# Altium schematic symbol library Adam home.SchLib: 216 symbols (part 1 of 2)
Pins are listed as number, name and electrical type; pins without a type are passive.

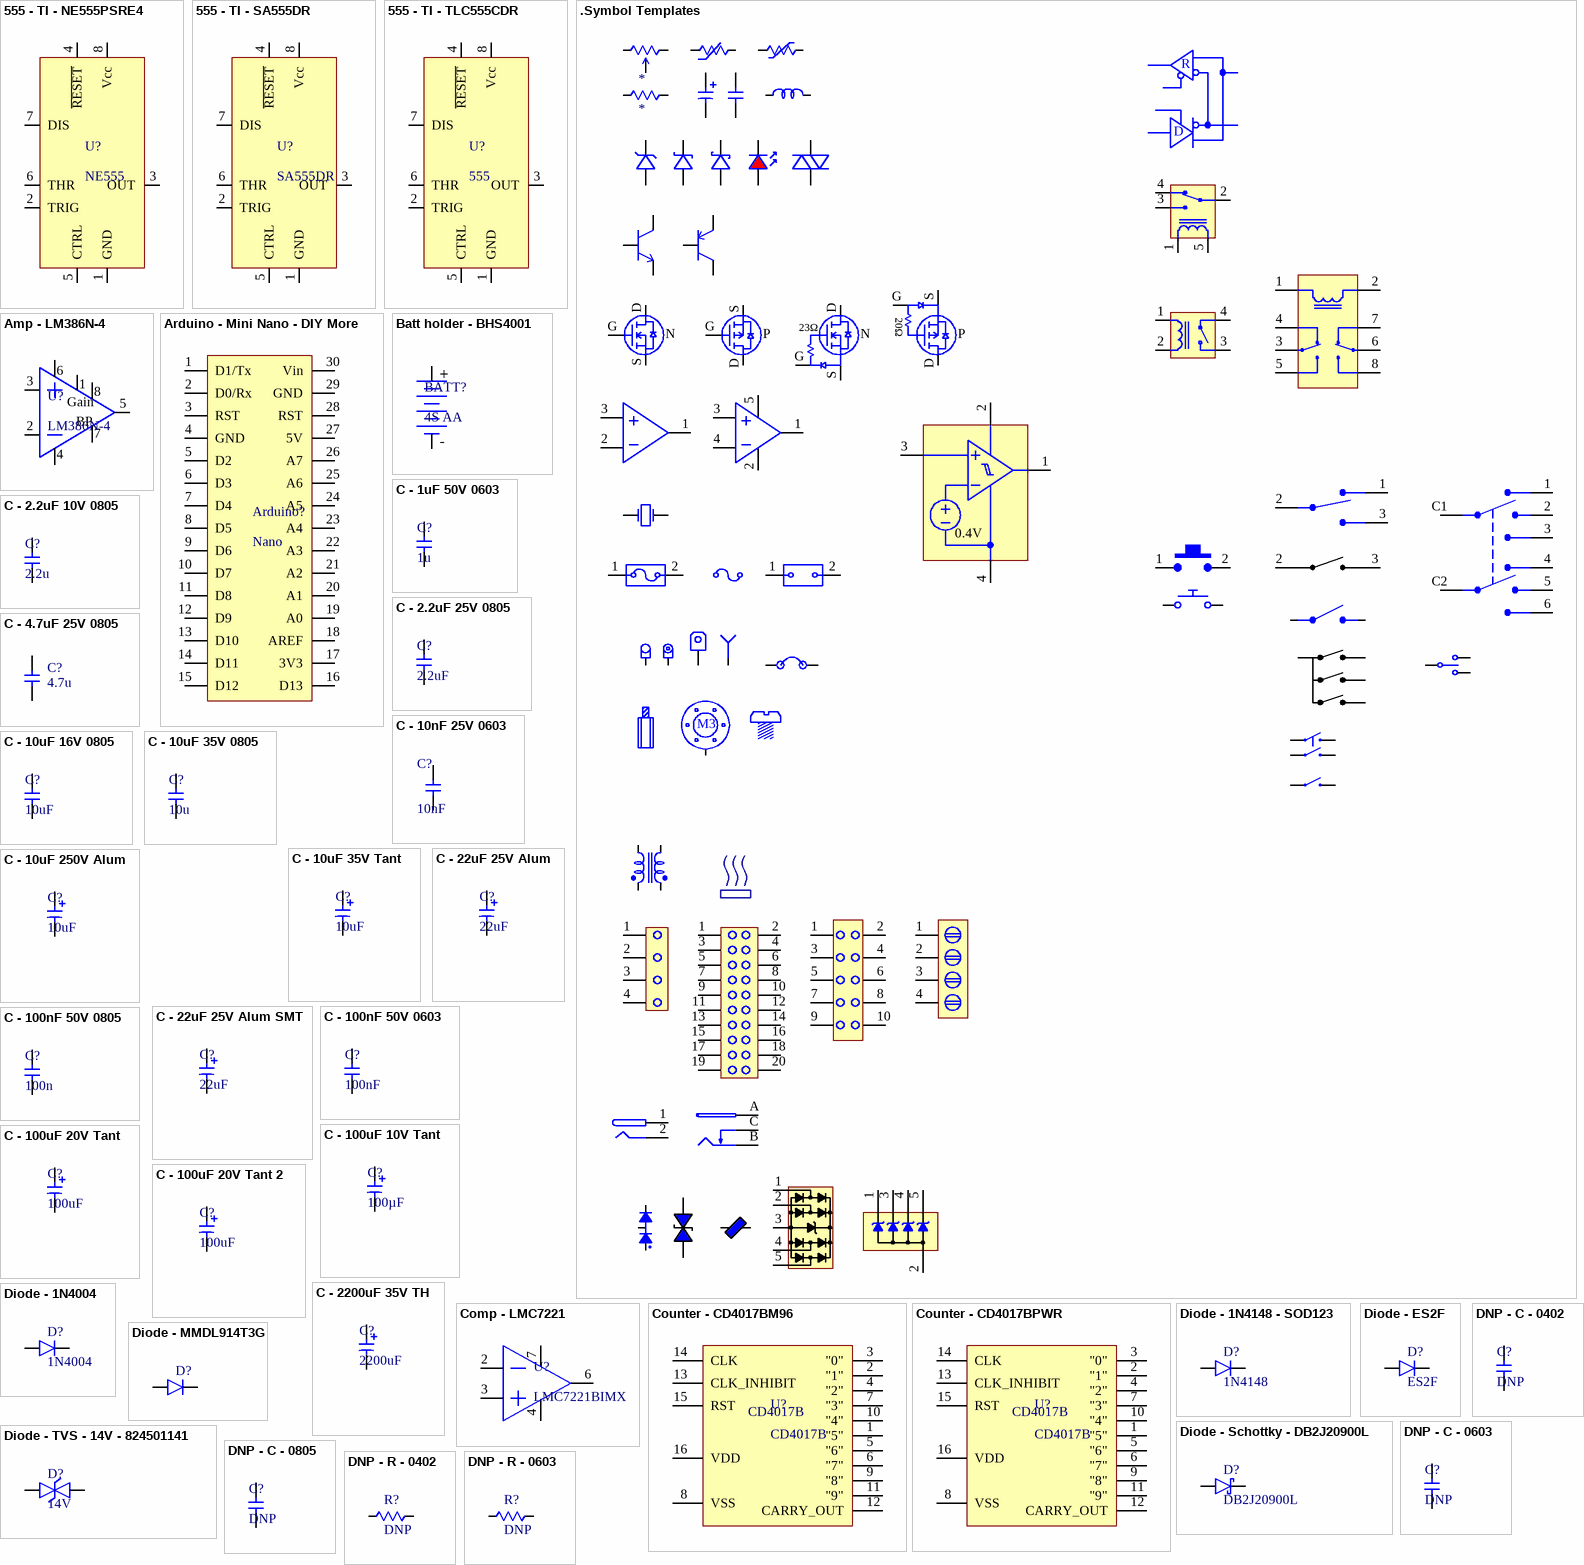
[diagram p0: symbols 555 - TI - NE555PSRE4 to DNP - R - 0603]

## 555 - TI - NE555PSRE4
designator U?, comment NE555
IC OSC SGL TIMER 100KHZ 8-SOIC; MFG: TI; MFG PN: NE555PSRE4; Supplier: DigiKey; Supplier PN: NE555PSRE4-ND; ComponentLink1Description: DigiKey; ComponentLink1URL: https://www.digikey.ca/en/products/detail/texas-instruments/NE555PSRE4/1571968; ComponentLink2Description: Datasheet; ComponentLink2URL: https://www.ti.com/lit/ds/symlink/ne555.pdf
pins: 1 GND, 2 TRIG, 3 OUT, 4 ~{RESET}, 5 CTRL, 6 THR, 7 DIS, 8 Vcc

## 555 - TI - SA555DR
designator U?, comment SA555DR
IC OSC SGL TIMER 100KHZ 8-SOIC; MFG: TI; MFG PN: SA555DR; Supplier: DigiKey; Supplier PN: 296-14635-1-ND; ComponentLink1Description: DigiKey; ComponentLink1URL: https://www.digikey.ca/en/products/detail/texas-instruments/SA555DR/555957; ComponentLink2Description: Datasheet; ComponentLink2URL: https://www.ti.com/lit/ds/symlink/sa555.pdf
pins: 1 GND, 2 TRIG, 3 OUT, 4 ~{RESET}, 5 CTRL, 6 THR, 7 DIS, 8 Vcc

## 555 - TI - TLC555CDR
designator U?, comment 555
IC OSC SGL TIMER 2.1MHZ 8-SOIC; MFG: TI; MFG PN: TLC555CDR; ComponentLink1Description: DigiKey; ComponentLink1URL: https://www.digikey.ca/en/products/detail/texas-instruments/TLC555CDR/276979; ComponentLink2Description: Datasheet; ComponentLink2URL: https://www.ti.com/lit/ds/symlink/tlc555.pdf; Supplier: DigiKey; Supplier PN: 296-1336-1-ND
footprint TI - D (R-PDSO-G8) (http://www.ti.com/lit/ml/mpds348/mpds348.pdf)
pins: 1 GND, 2 TRIG, 3 OUT, 4 ~{RESET}, 5 CTRL, 6 THR, 7 DIS, 8 Vcc

## .Symbol Templates
designator *
pins: 0, 1, 1, 1, 1, 1, 1, 1, 1, 1, 1, 1, 1, 1 "Drain", 1, 1, 1, 1, 1 OUT, 1 1OUT, 1 OUT, 1, 1, 1, 1, 1, 1, 1, 1, 1, 1 "Drain", 1, 1, 1, 1, 1, 1, 1, 1, 1, 1, 1, 1, 1, 1, 1, 1, 1, 2, 2, 2, 2, 2, 2, 2, 2, 2, 2, 2 "Source", 2, 2, 2, 2, 2 VS, 2 1IN-, 2 VEE, 2, 2, 2, 2, 2, 2, 2, 2 "Source", 2, 2, 2, 2, 2, 2, 2, 2, 2, 2, 2, 2, 2, 2, 2, 2, 2, 2, 3, 3, 3, 3, 3, 3, 3 IN+, 3 1IN+, 3 IN+, 3, 3, 3, 3, 3, 3, 3, 3, 3, 3, 3, 3, 3, 4, 4, 4, 4, 4, 4 GND, 4 IN-, 4, 4, 4, 4, 4, 4, 4, 5, 5, 5 VCC, 5, 5, 5, 5, 5, 6, 6, 6, 6, 7, 7, 7, 8, 8, 8, 9, 9, 10, 10, 11, 12, 13, 14, 15, 16, 17, 18, 19, 20, A, B, C, C1, C2, D, D, D, D, G, G, G, G, S, S, S, S
text: R; 20Ω; 23Ω; N; P; 0.4V; M3

## Amp - LM386N-4
designator U?, comment LM386N-4
IC AMP AUDIO PWR 1W MONO AB 8DIP; MFG: TI; MFG PN: LM386N-4/NOPB; Supplier: DigiKey; Supplier PN: 296-43960-5-ND; ComponentLink1Description: DigiKey; ComponentLink1URL: https://www.digikey.ca/en/products/detail/texas-instruments/LM386N-4-NOPB/148192; ComponentLink2Description: Datasheet; ComponentLink2URL: https://www.ti.com/lit/ds/symlink/lm386.pdf
pins: 1 Gain1, 2 - Input, 3 + Input, 4 GND, 5 Vout, 6 Vs, 7 Bypass, 8 Gain2
text: Gain; BP

## Arduino - Mini Nano - DIY More
designator Arduino?, comment Nano
ARDUINO NANO BOARD
pins: 1 D1/Tx, 2 D0/Rx, 3 RST, 4 GND, 5 D2, 6 D3, 7 D4, 8 D5, 9 D6, 10 D7, 11 D8, 12 D9, 13 D10, 14 D11, 15 D12, 16 D13, 17 3V3, 18 AREF, 19 A0, 20 A1, 21 A2, 22 A3, 23 A4, 24 A5, 25 A6, 26 A7, 27 5V, 28 RST, 29 GND, 30 Vin

## Batt holder - BHS4001
designator BATT?, comment 4S AA
BATT HOLDER 4 AA; MFG: TAIWAN; MFG PN: BHS4001; Supplier: Tayda; Supplier PN: A-842; ComponentLink1Description: Tayda; ComponentLink1URL: https://www.taydaelectronics.com/aa-battery-holder-4.html
pins: 1 V+, 2 V-
text: +; -

## C - 1uF 50V 0603
designator C?, comment 1u
CAP CER 1UF 50V X5R 0603; MFG: Yageo; MFG PN: CC0603KRX5R9BB105; Supplier: DigiKey; Supplier PN: 311-1787-1-ND
footprint C0603
pins: 1, 2

## C - 2.2uF 10V 0805
designator C?, comment 2.2u
CAP CER 2.2UF 10V X7R 0805; MFG: Samsung; MFG PN: CL21B225KPFNNNE; Supplier: DigiKey; Supplier PN: 1276-1188-1-ND
footprint C0805
pins: 1, 2

## C - 2.2uF 25V 0805
designator C?, comment 2.2uF
CAP CER 2.2UF 25V X5R 0805; MFG: Samsung; MFG PN: CL21A225KAFNNNG; Supplier: DigiKey; Supplier PN: 1276-6458-1-ND
footprint C0805
pins: 1, 2

## C - 4.7uF 25V 0805
designator C?, comment 4.7u
CAP CER 4.7UF 25V X5R 0805; MFG: Yageo; MFG PN: CC0805KKX5R8BB475; Supplier: DigiKey; Supplier PN: 311-1871-1-ND
footprint C0805
pins: 1, 2

## C - 10nF 25V 0603
designator C?, comment 10nF
CAP CER 10000PF 25V X7R 0603; MFG: Yageo; MFG PN: CC0603KRX7R8BB103; Supplier: DigiKey; Supplier PN: 311-1360-1-ND
footprint C0603
pins: 1, 2

## C - 10uF 16V 0805
designator C?, comment 10uF
CAP CER 10UF 16V X5R 0805; MFG: Samsung; MFG PN: CL21A106KOQNNWE; Supplier: DigiKey; Supplier PN: 1276-2894-1-ND
footprint C0805
pins: 1, 2

## C - 10uF 35V 0805
designator C?, comment 10u
CAP CER 10UF 35V X5R 0805; MFG: Murata; MFG PN: GRM21BR6YA106KE43L; Supplier: DigiKey; Supplier PN: 490-10514-1-ND
footprint C0805
pins: 1, 2

## C - 10uF 35V Tant
designator C?, comment 10uF
CAP TANT 10UF 10% 35V 2917; MFG: AVX Corp; MFG PN: TPSD106K035R0125; Supplier: DigiKey; Supplier PN: 478-3337-1-ND
footprint C - AVX - TPS - size D (478-9142-1-ND)
pins: 1, 2

## C - 10uF 250V Alum
designator C?, comment 10uF
CAP ALUM 10UF 20% 250V SMD; MFG: Panasonic; MFG PN: EEV-EB2E100Q; Supplier: DigiKey; Supplier PN: PCE3432CT-ND
footprint C - Panasonic - G17 (PCE3432CT-ND)
pins: 1, 2

## C - 22uF 25V Alum
designator C?, comment 22uF
CAP ALUM 22UF 20% 25V RADIAL; MFG: Wurth Electronics Inc.; MFG PN: 860020472004; Supplier: DigiKey; Supplier PN: 732-8821-1-ND
footprint C - Wurth - 2mm (732-8821-1-ND)
pins: 1, 2

## C - 22uF 25V Alum SMT
designator C?, comment 22uF
CAP 22 UF 20% 25 V; MFG: Wurth Electronics Inc.; MFG PN: 865080442004; Supplier: DigiKey; Supplier PN: 732-8432-1-ND
footprint C - Wurth - SMT - 5mm Dia can (732-8432-1-ND)
pins: 1, 2

## C - 100nF 50V 0603
designator C?, comment 100nF
CAP CER 0.1UF 50V X7R 0603; MFG: Yageo; MFG PN: CC0603KRX7R9BB104; Supplier: DigiKey; Supplier PN: 311-1344-1-ND
footprint C0603
pins: 1, 2

## C - 100nF 50V 0805
designator C?, comment 100n
CAP CER 0.1UF 50V Y5V 0805; MFG: Yageo; MFG PN: CC0805ZRY5V9BB104; Supplier: DigiKey; Supplier PN: 311-1361-1-ND
footprint C0805
pins: 1, 2

## C - 100uF 10V Tant
designator C?, comment 100µF
CAP TANT 100UF 10% 10V 2312; MFG: Vishay Sprague; MFG PN: 593D107X9010C2TE3; ComponentLink1Description: DigiKey; ComponentLink1URL: https://www.digikey.ca/en/products/detail/vishay-sprague/593D107X9010C2TE3/1579081; ComponentLink2Description: Datasheet; ComponentLink2URL: https://www.vishay.com/docs/40005/593d.pdf; Supplier: DigiKey; Supplier PN: 718-1971-1-ND
footprint C - VISHAY 593D 2312 (CASE CODE D)
pins: 1, 2

## C - 100uF 20V Tant
designator C?, comment 100uF
CAP TANT 100UF 10% 20V 2917; MFG: AVX Corp; MFG PN: TPSD107K020R0100; Supplier: DigiKey; Supplier PN: 478-9142-1-ND
footprint C - AVX - TPS - size D (478-9142-1-ND)
pins: 1, 2

## C - 100uF 20V Tant 2
designator C?, comment 100uF
CAP TANT 100UF 20% 20V 2917; MFG: AVX Corp; MFG PN: TPSD107M020R0085; Supplier: DigiKey; Supplier PN: 478-6066-1-ND
footprint C - AVX - TPS - size D (478-9142-1-ND)
pins: 1, 2

## C - 2200uF 35V TH
designator C?, comment 2200uF
CAP ALUM 2200UF 20% 35V RADIAL; MFG: KEMET; MFG PN: ESH228M035AM7AA; Supplier: DigiKey; Supplier PN: 399-6572-ND
footprint C - KEMET - MT (KEMET size code M7)
pins: 1, 2

## Comp - LMC7221
designator U?, comment LMC7221BIMX
IC COMPAR TNY CMOS RR IN 8-SOIC; MFG: TI; MFG PN: LMC7221BIMX/NOPB; ComponentLink1Description: DigiKey; ComponentLink1URL: https://www.digikey.ca/en/products/detail/texas-instruments/LMC7221BIMX-NOPB/367452; ComponentLink2Description: Datasheet; ComponentLink2URL: https://www.ti.com/lit/ds/symlink/lmc7221.pdf?ts=1662769991979; Supplier: DigiKey; Supplier PN: LMC7221BIMX/NOPBCT-ND
pins: 2 IN-, 3 IN+, 4 V-, 6 OUT, 7 V+

## Counter - CD4017BM96
designator U?, comment CD4017B
IC DECADE COUNTER 10-BIT 16SOIC; MFG: TI; MFG PN: CD4017BM96; ComponentLink1Description: DigiKey; ComponentLink1URL: https://www.digikey.ca/en/products/detail/texas-instruments/CD4017BM96/1690809; ComponentLink2Description: Datasheet; ComponentLink2URL: https://www.ti.com/lit/ds/symlink/cd4017b.pdf; Supplier: DigiKey; Supplier PN: 296-25940-1-ND
footprint TI - D (R-PDSO-G16)
pins: 1 "5", 2 "1", 3 "0", 4 "2", 5 "6", 6 "7", 7 "3", 8 VSS, 9 "8", 10 "4", 11 "9", 12 CARRY_OUT, 13 CLK_INHIBIT, 14 CLK, 15 RST, 16 VDD

## Counter - CD4017BPWR
designator U?, comment CD4017B
Counter IC Counter, Decade 1 Element 10 Bit Positive Edge 16-TSSOP; MFG: TI; MFG PN: CD4017BPWR; Supplier: DigiKey; Supplier PN: 296-14252-1-ND; ComponentLink1Description: DigiKey; ComponentLink1URL: https://www.digikey.ca/en/products/detail/texas-instruments/CD4017BPWR/528387; ComponentLink2Description: Datasheet; ComponentLink2URL: https://www.ti.com/lit/ds/symlink/cd4017b.pdf
pins: 1 "5", 2 "1", 3 "0", 4 "2", 5 "6", 6 "7", 7 "3", 8 VSS, 9 "8", 10 "4", 11 "9", 12 CARRY_OUT, 13 CLK_INHIBIT, 14 CLK, 15 RST, 16 VDD

## Diode - 1N4004
designator D?, comment 1N4004
DIODE GEN PURP 400V 1A DO41; MFG: Diodes Incorporated; MFG PN: 1N4004-T; Supplier: DigiKey; Supplier PN: 1N4004DICT-ND; ComponentLink1Description: DigiKey; ComponentLink1URL: https://www.digikey.ca/en/products/detail/diodes-incorporated/1N4004-T/604; ComponentLink2Description: Datasheet; ComponentLink2URL: https://www.diodes.com/assets/Datasheets/ds28002.pdf
pins: 1, 2

## Diode - 1N4148 - SOD123
designator D?, comment 1N4148
DIODE GEN PURP 75V 250MA SOD123; MFG: SMC Diode Solutions; MFG PN: 1N4148WTR; Supplier: DigiKey; Supplier PN: 1655-1360-1-ND; ComponentLink1Description: DigiKey; ComponentLink1URL: https://www.digikey.ca/en/products/detail/smc-diode-solutions/1N4148W/6022450; ComponentLink2Description: Datasheet; ComponentLink2URL: https://www.smc-diodes.com/propdf/1N4148W%20N0571%20REV.E.pdf
footprint SOD 123
pins: 1, 2

## Diode - ES2F
designator D?, comment ES2F
DIODE GEN PURP 300V 2A DO214AA; MFG: Vishay Semi; MFG PN: ES2F-E3/52T; Supplier: DigiKey; Supplier PN: ES2F-E3/52TGICT-ND; ComponentLink1Description: DigiKey; ComponentLink1URL: https://www.digikey.ca/en/products/detail/vishay-general-semiconductor-diodes-division/ES2F-E3-52T/1091445; ComponentLink2Description: Datasheet; ComponentLink2URL: https://www.vishay.com/docs/88588/es2f.pdf
footprint D - SMB - Vishay (ES2F-E3/52TGICT-ND)
pins: 1, 2

## Diode - MMDL914T3G
designator D?, comment MMDL914T3G  (value not drawn)
DIODE GEN PURP 100V 200MA SOD323; MFG: ON Semi; MFG PN: MMDL914T3G; Supplier: DigiKey; Supplier PN: MMDL914T3GOSCT-ND; ComponentLink1Description: DigiKey; ComponentLink1URL: https://www.digikey.ca/en/products/detail/onsemi/MMDL914T3G/1792339; ComponentLink2Description: Datasheet; ComponentLink2URL: https://www.onsemi.com/pdf/datasheet/mmdl914t1-d.pdf
pins: 1, 2

## Diode - Schottky - DB2J20900L
designator D?, comment DB2J20900L
Diode Schottky 20V 500mA Surface Mount SMini2-F5-B; MFG: Panasonic Electronic Components; ComponentLink1URL: https://www.digikey.ca/en/products/detail/panasonic-electronic-components/DB2J20900L/2334429; MFG PN: DB2J20900L; Supplier: DigiKey; Supplier PN: DB2J20900LCT-ND; ComponentLink1Description: DigiKey; ComponentLink2Description: Datasheet; ComponentLink2URL: https://mm.digikey.com/Volume0/opasdata/d220001/medias/docus/732/DB2J20900L_DS.pdf
footprint D - Panasonic - SMini2-F5-B (From DB2J20900L datasheet, DB2J20900LCT-ND)
pins: 1, 2

## Diode - TVS - 14V - 824501141
designator D?, comment 14V
TVS DIODE 14V 23.2V DO214AC; MFG: Wurth Electronics Inc.; MFG PN: 824501141; Supplier: DigiKey; Supplier PN: 732-9951-1-ND; ComponentLink1Description: DigiKey; ComponentLink1URL: https://www.digikey.ca/en/products/detail/w%C3%BCrth-elektronik/SMAJ14CA/5870757; ComponentLink2Description: Datasheet; ComponentLink2URL: https://www.we-online.com/components/products/datasheet/824501141.pdf
footprint D - SMA - WURTH - NON-POLAR (Footprint not found)
pins: 1, 2

## DNP - C - 0402
designator C?, comment DNP  (no BOM)
DNP C 0402
footprint C0402
pins: 1, 2

## DNP - C - 0603
designator C?, comment DNP  (no BOM)
DNP C 0603
footprint C0603
pins: 1, 2

## DNP - C - 0805
designator C?, comment DNP  (no BOM)
DNP C 0805
footprint C0805
pins: 1, 2

## DNP - R - 0402
designator R?, comment DNP
DNP R 0402
footprint R0402
pins: 1, 2

## DNP - R - 0603
designator R?, comment DNP  (no BOM)
DNP R 0603
footprint R0603
pins: 1, 2

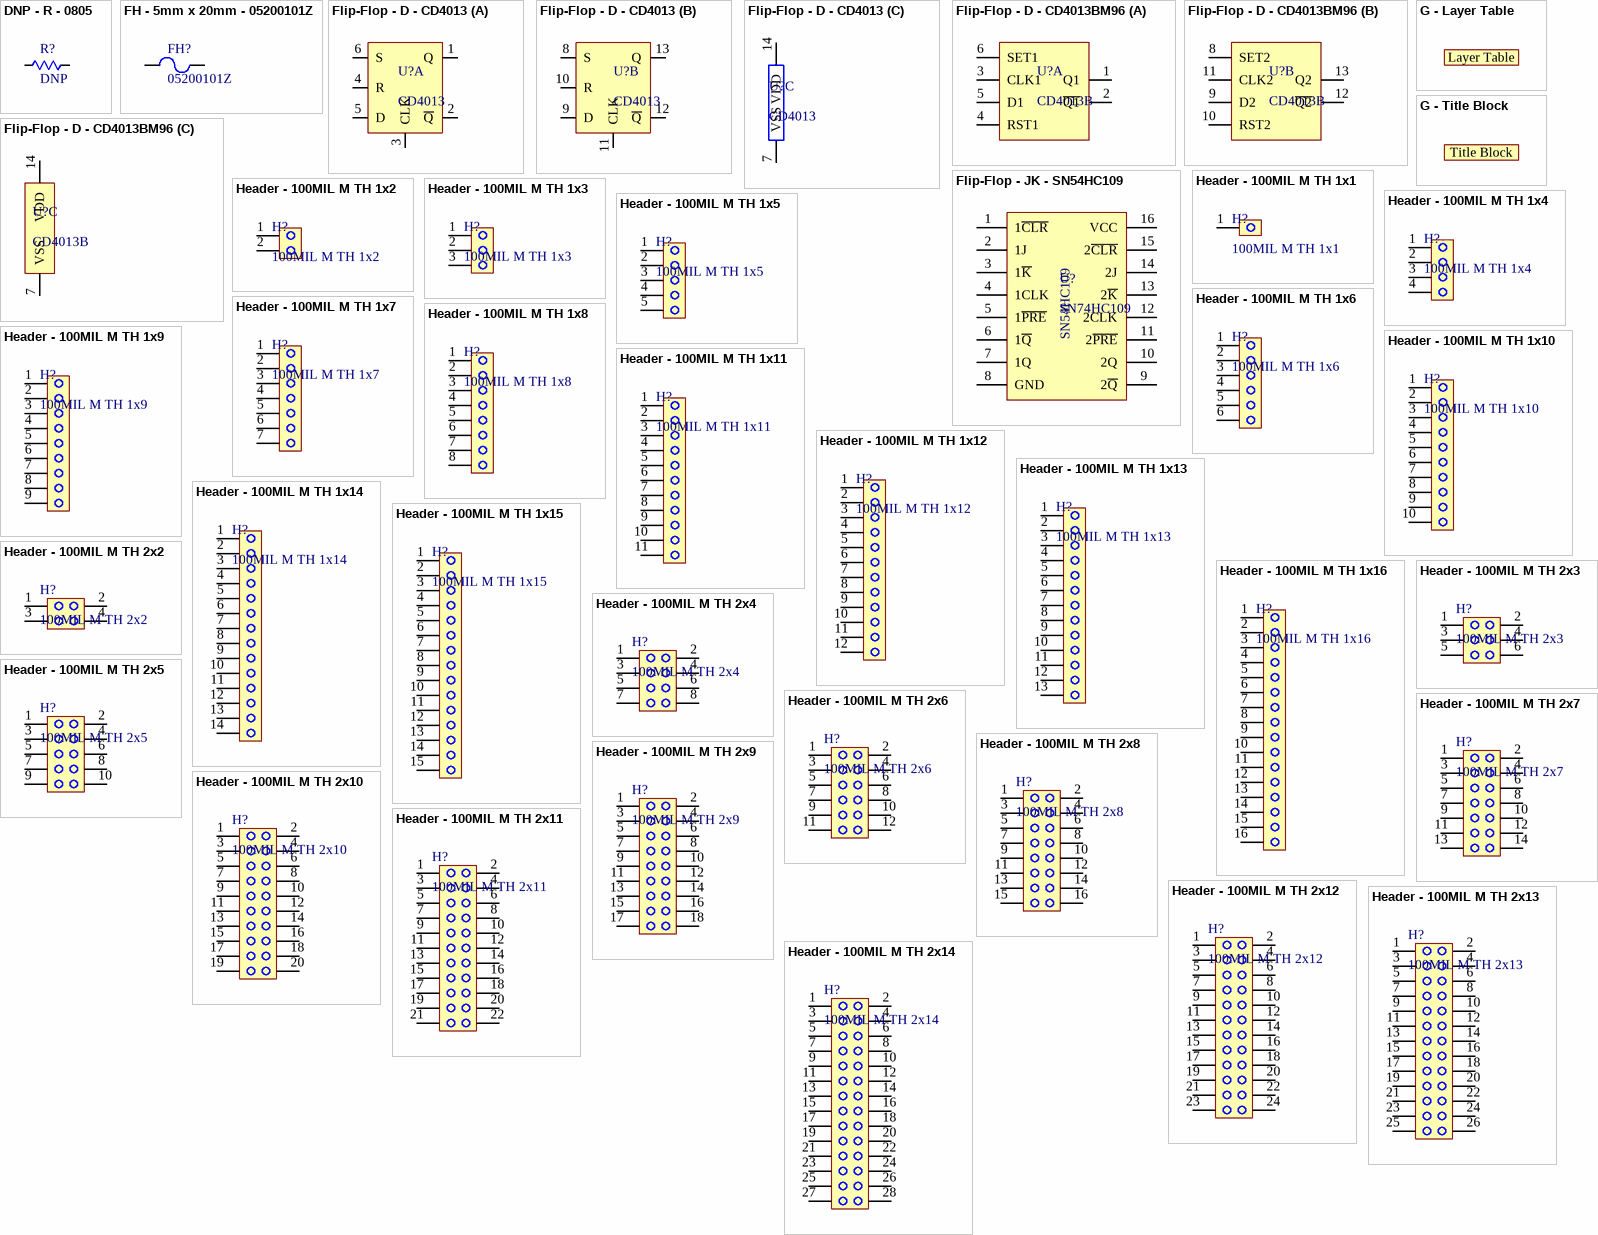
[diagram p1: symbols DNP - R - 0805 to Header - 100MIL M TH 2x14]

## DNP - R - 0805
designator R?, comment DNP  (no BOM)
DNP R 0805
footprint R0805
pins: 1, 2

## FH - 5mm x 20mm - 05200101Z
designator FH?, comment 05200101Z
FUSE BLOK CARTRIDGE 600V 10A PCB; MFG: Littelfuse Inc.; MFG PN: 05200101Z; Supplier: DigiKey; Supplier PN: F1504-ND; ComponentLink1Description: DigiKey; ComponentLink1URL: https://www.digikey.ca/en/products/detail/littelfuse-inc/05200101Z/554336; ComponentLink2Description: Datasheet; ComponentLink2URL: https://www.littelfuse.com/~/media/electronics/datasheets/fuse_blocks/littelfuse_fuse_block_520_datasheet.pdf.pdf
pins: 1, 2

## Flip-Flop - D - CD4013
designator U?, comment CD4013
IC D-TYPE POS TRG DUAL 14SOIC; MFG: TI; MFG PN: CD4013BM96G4; Supplier: DigiKey; Supplier PN: 296-31487-1-ND; ComponentLink1Description: DigiKey; ComponentLink1URL: https://www.digikey.ca/en/products/detail/texas-instruments/CD4013BM96G4/1896471; ComponentLink2Description: Datasheet; ComponentLink2URL: https://www.ti.com/lit/ds/symlink/cd4013b.pdf
footprint TI - D (R-PDSO-G14)
part A pins: 1 Q, 2 ~{Q}, 3 CLK, 4 R, 5 D, 6 S
part B pins: 8 S, 9 D, 10 R, 11 CLK, 12 ~{Q}, 13 Q
part C pins: 7 VSS, 14 VDD

## Flip-Flop - D - CD4013BM96
designator U?, comment CD4013B
IC FF D-TYPE DUAL 1BIT 14SOIC; MFG: TI; MFG PN: CD4013BM96; ComponentLink1Description: DigiKey; ComponentLink1URL: https://www.digikey.ca/en/products/detail/texas-instruments/CD4013BM96/1690718; ComponentLink2Description: Datasheet; ComponentLink2URL: https://www.ti.com/lit/ds/symlink/cd4013b.pdf; Supplier: DigiKey; Supplier PN: 296-24347-1-ND
footprint TI - D (R-PDSO-G14)
part A pins: 1 Q1, 2 ~{Q1}, 3 CLK1, 4 RST1, 5 D1, 6 SET1
part B pins: 8 SET2, 9 D2, 10 RST2, 11 CLK2, 12 ~{Q2}, 13 Q2
part C pins: 7 VSS, 14 VDD

## Flip-Flop - JK - SN54HC109
designator U?, comment SN74HC109
MFG: TI; MFG PN: SN54HC109J; Supplier: DigiKey; Supplier PN: 296-SN54HC109J-ND; ComponentLink1Description: DigiKey; ComponentLink1URL: https://www.digikey.ca/en/products/detail/texas-instruments/SN54HC109J/21521063; ComponentLink2Description: Datasheet; ComponentLink2URL: https://www.ti.com/lit/ds/symlink/sn54hc109.pdf
pins: 1 1~{CLR}, 2 1J, 3 1~{K}, 4 1CLK, 5 1~{PRE}, 6 1~{Q}, 7 1Q, 8 GND, 9 2~{Q}, 10 2Q, 11 2~{PRE}, 12 2CLK, 13 2~{K}, 14 2J, 15 2~{CLR}, 16 VCC
text: SN54HC109

## G - Layer Table
designator LT?, comment Layer Table  (value not drawn)  (no BOM)
footprint LAYER TABLE - 2
footprint LAYER TABLE - 2 - REDUCED
footprint LAYER TABLE - 4
footprint LAYER TABLE - 4 - REDUCED

## G - Title Block
designator TB?, comment Title Block  (value not drawn)  (no BOM)
PCB Title Block
footprint TITLE BLOCK

## Header - 100MIL M TH 1x1
designator H?, comment 100MIL M TH 1x1
CONN HEADER VERT 1x1 100MIL; MFG: SAMTEC; MFG PN: TSW-101-07-G-S; ComponentLink1Description: DigiKey; ComponentLink1URL: https://www.digikey.ca/en/products/detail/samtec-inc/TSW-101-07-G-S/1101326; ComponentLink2Description: Datasheet; ComponentLink2URL: https://suddendocs.samtec.com/catalog_english/tsw_th.pdf; Supplier: DigiKey; Supplier PN: SAM1029-01-ND
footprint H - 100MIL M TH 1x1
pins: 1

## Header - 100MIL M TH 1x2
designator H?, comment 100MIL M TH 1x2
CONN HEADER VERT 1x2 100MIL; MFG: SAMTEC; MFG PN: TSW-102-07-G-S; ComponentLink1Description: DigiKey; ComponentLink1URL: https://www.digikey.ca/en/products/detail/samtec-inc/TSW-102-07-G-S/1101325; ComponentLink2Description: Datasheet; ComponentLink2URL: https://suddendocs.samtec.com/catalog_english/tsw_th.pdf; Supplier: DigiKey; Supplier PN: SAM1029-02-ND
footprint H - 100MIL M TH 1x2
pins: 1, 2

## Header - 100MIL M TH 1x3
designator H?, comment 100MIL M TH 1x3
CONN HEADER VERT 1x3 100MIL; MFG: SAMTEC; MFG PN: TSW-103-07-G-S; ComponentLink1Description: DigiKey; ComponentLink1URL: https://www.digikey.ca/en/products/detail/samtec-inc/TSW-103-07-G-S/1101324; ComponentLink2Description: Datasheet; ComponentLink2URL: https://suddendocs.samtec.com/catalog_english/tsw_th.pdf; Supplier: DigiKey; Supplier PN: SAM1029-03-ND
footprint H - 100MIL M TH 1x3 (TSW-103-07-G-S)
pins: 1, 2, 3

## Header - 100MIL M TH 1x4
designator H?, comment 100MIL M TH 1x4
CONN HEADER VERT 1x4 100MIL; MFG: SAMTEC; MFG PN: TSW-104-07-G-S; ComponentLink1Description: DigiKey; ComponentLink1URL: https://www.digikey.ca/en/products/detail/samtec-inc/TSW-104-07-G-S/1101323; ComponentLink2Description: Datasheet; ComponentLink2URL: https://suddendocs.samtec.com/catalog_english/tsw_th.pdf; Supplier: DigiKey; Supplier PN: SAM1029-04-ND
footprint H - 100MIL M TH 1x4 (TSW-104-07-G-S)
pins: 1, 2, 3, 4

## Header - 100MIL M TH 1x5
designator H?, comment 100MIL M TH 1x5
CONN HEADER VERT 1x 100MIL; MFG: SAMTEC; MFG PN: TSW-105-07-G-S; ComponentLink1Description: DigiKey; ComponentLink1URL: https://www.digikey.ca/en/products/detail/samtec-inc/TSW-105-07-G-S/1101322; ComponentLink2Description: Datasheet; ComponentLink2URL: https://suddendocs.samtec.com/catalog_english/tsw_th.pdf; Supplier: DigiKey; Supplier PN: SAM1029-05-ND
footprint H - 100MIL M TH 1x5 (TSW-105-07-G-S)
pins: 1, 2, 3, 4, 5

## Header - 100MIL M TH 1x6
designator H?, comment 100MIL M TH 1x6
CONN HEADER VERT 1x6 100MIL; MFG: SAMTEC; MFG PN: TSW-106-07-G-S; ComponentLink1Description: DigiKey; ComponentLink1URL: https://www.digikey.ca/en/products/detail/samtec-inc/TSW-106-07-G-S/1101321; ComponentLink2Description: Datasheet; ComponentLink2URL: https://suddendocs.samtec.com/catalog_english/tsw_th.pdf; Supplier: DigiKey; Supplier PN: SAM1029-06-ND
footprint H - 100MIL M TH 1x6 (TSW-106-07-G-S)
pins: 1, 2, 3, 4, 5, 6

## Header - 100MIL M TH 1x7
designator H?, comment 100MIL M TH 1x7
CONN HEADER VERT 1x7 100MIL; MFG: SAMTEC; MFG PN: TSW-107-07-G-S; ComponentLink1Description: DigiKey; ComponentLink1URL: https://www.digikey.ca/en/products/detail/samtec-inc/TSW-107-07-G-S/1101320; ComponentLink2Description: Datasheet; ComponentLink2URL: https://suddendocs.samtec.com/catalog_english/tsw_th.pdf; Supplier: DigiKey; Supplier PN: SAM1029-07-ND
footprint H - 100MIL M TH 1x7 (TSW-107-07-G-S)
pins: 1, 2, 3, 4, 5, 6, 7

## Header - 100MIL M TH 1x8
designator H?, comment 100MIL M TH 1x8
CONN HEADER VERT 1x8 100MIL; MFG: SAMTEC; MFG PN: TSW-108-07-G-S; ComponentLink1Description: DigiKey; ComponentLink1URL: https://www.digikey.ca/en/products/detail/samtec-inc/TSW-108-07-G-S/1101319; ComponentLink2Description: Datasheet; ComponentLink2URL: https://suddendocs.samtec.com/catalog_english/tsw_th.pdf; Supplier: DigiKey; Supplier PN: SAM1029-08-ND
footprint H - 100MIL M TH 1x8 (TSW-108-07-G-S)
pins: 1, 2, 3, 4, 5, 6, 7, 8

## Header - 100MIL M TH 1x9
designator H?, comment 100MIL M TH 1x9
CONN HEADER VERT 1x9 100MIL; MFG: SAMTEC; MFG PN: TSW-109-07-G-S; ComponentLink1Description: DigiKey; ComponentLink1URL: https://www.digikey.ca/en/products/detail/samtec-inc/TSW-109-07-G-S/1101318; ComponentLink2Description: Datasheet; ComponentLink2URL: https://suddendocs.samtec.com/catalog_english/tsw_th.pdf; Supplier: DigiKey; Supplier PN: SAM1029-09-ND
footprint H - 100MIL M TH 1x9 (TSW-109-07-G-S)
pins: 1, 2, 3, 4, 5, 6, 7, 8, 9

## Header - 100MIL M TH 1x10
designator H?, comment 100MIL M TH 1x10
CONN HEADER VERT 1x10 100MIL; MFG: SAMTEC; MFG PN: TSW-110-07-G-S; ComponentLink1Description: DigiKey; ComponentLink1URL: https://www.digikey.ca/en/products/detail/samtec-inc/TSW-110-07-G-S/1101317; ComponentLink2Description: Datasheet; ComponentLink2URL: https://suddendocs.samtec.com/catalog_english/tsw_th.pdf; Supplier: DigiKey; Supplier PN: SAM1029-10-ND
footprint H - 100MIL M TH 1x10 (TSW-110-07-G-S)
pins: 1, 2, 3, 4, 5, 6, 7, 8, 9, 10

## Header - 100MIL M TH 1x11
designator H?, comment 100MIL M TH 1x11
CONN HEADER VERT 1x11 100MIL; MFG: SAMTEC; MFG PN: TSW-111-07-G-S; ComponentLink1Description: DigiKey; ComponentLink1URL: https://www.digikey.ca/en/products/detail/samtec-inc/TSW-111-07-G-S/1101316; ComponentLink2Description: Datasheet; ComponentLink2URL: https://suddendocs.samtec.com/catalog_english/tsw_th.pdf; Supplier: DigiKey; Supplier PN: SAM1029-11-ND
footprint H - 100MIL M TH 1x11 (TSW-111-07-G-S)
pins: 1, 2, 3, 4, 5, 6, 7, 8, 9, 10, 11

## Header - 100MIL M TH 1x12
designator H?, comment 100MIL M TH 1x12
CONN HEADER VERT 1x12 100MIL; MFG: SAMTEC; MFG PN: TSW-112-07-G-S; ComponentLink1Description: DigiKey; ComponentLink1URL: https://www.digikey.ca/en/products/detail/samtec-inc/TSW-112-07-G-S/1101315; ComponentLink2Description: Datasheet; ComponentLink2URL: https://suddendocs.samtec.com/catalog_english/tsw_th.pdf; Supplier: DigiKey; Supplier PN: SAM1029-12-ND
footprint H - 100MIL M TH 1x12 (TSW-112-07-G-S)
pins: 1, 2, 3, 4, 5, 6, 7, 8, 9, 10, 11, 12

## Header - 100MIL M TH 1x13
designator H?, comment 100MIL M TH 1x13
CONN HEADER VERT 1x13 100MIL; MFG: SAMTEC; MFG PN: TSW-113-07-G-S; ComponentLink1Description: DigiKey; ComponentLink1URL: https://www.digikey.ca/en/products/detail/samtec-inc/TSW-113-07-G-S/1101314; ComponentLink2Description: Datasheet; ComponentLink2URL: https://suddendocs.samtec.com/catalog_english/tsw_th.pdf; Supplier: DigiKey; Supplier PN: SAM1029-13-ND
footprint H - 100MIL M TH 1x13 (TSW-113-07-G-S)
pins: 1, 2, 3, 4, 5, 6, 7, 8, 9, 10, 11, 12, 13

## Header - 100MIL M TH 1x14
designator H?, comment 100MIL M TH 1x14
CONN HEADER VERT 1x14 100MIL; MFG: SAMTEC; MFG PN: TSW-114-07-G-S; ComponentLink1Description: DigiKey; ComponentLink1URL: https://www.digikey.ca/en/products/detail/samtec-inc/TSW-114-07-G-S/1101313; ComponentLink2Description: Datasheet; ComponentLink2URL: https://suddendocs.samtec.com/catalog_english/tsw_th.pdf; Supplier: DigiKey; Supplier PN: SAM1029-14-ND
footprint H - 100MIL M TH 1x14 (TSW-114-07-G-S)
pins: 1, 2, 3, 4, 5, 6, 7, 8, 9, 10, 11, 12, 13, 14

## Header - 100MIL M TH 1x15
designator H?, comment 100MIL M TH 1x15
CONN HEADER VERT 1x15 100MIL; MFG: SAMTEC; MFG PN: TSW-115-07-G-S; ComponentLink1Description: DigiKey; ComponentLink1URL: https://www.digikey.ca/en/products/detail/samtec-inc/TSW-115-07-G-S/1101312; ComponentLink2Description: Datasheet; ComponentLink2URL: https://suddendocs.samtec.com/catalog_english/tsw_th.pdf; Supplier: DigiKey; Supplier PN: SAM1029-15-ND
footprint H - 100MIL M TH 1x15 (TSW-115-07-G-S)
pins: 1, 2, 3, 4, 5, 6, 7, 8, 9, 10, 11, 12, 13, 14, 15

## Header - 100MIL M TH 1x16
designator H?, comment 100MIL M TH 1x16
CONN HEADER VERT 1x16 100MIL; MFG: SAMTEC; MFG PN: TSW-116-07-G-S; ComponentLink1Description: DigiKey; ComponentLink1URL: https://www.digikey.ca/en/products/detail/samtec-inc/TSW-116-07-G-S/1101311; ComponentLink2Description: Datasheet; ComponentLink2URL: https://suddendocs.samtec.com/catalog_english/tsw_th.pdf; Supplier: DigiKey; Supplier PN: SAM1029-16-ND
footprint H - 100MIL M TH 1x16 (TSW-116-07-G-S)
pins: 1, 2, 3, 4, 5, 6, 7, 8, 9, 10, 11, 12, 13, 14, 15, 16

## Header - 100MIL M TH 2x2
designator H?, comment 100MIL M TH 2x2
CONN HEADER VERT 2x2 100MIL; MFG: SAMTEC; MFG PN: TSW-102-07-G-D; ComponentLink1Description: DigiKey; ComponentLink1URL: https://www.digikey.ca/en/products/detail/samtec-inc/TSW-102-07-G-D/1101275; ComponentLink2Description: Datasheet; ComponentLink2URL: https://suddendocs.samtec.com/catalog_english/tsw_th.pdf; Supplier: DigiKey; Supplier PN: SAM1028-02-ND
footprint H - 100MIL M TH 2x2 (TSW-102-07-G-D)
pins: 1, 2, 3, 4

## Header - 100MIL M TH 2x3
designator H?, comment 100MIL M TH 2x3
CONN HEADER VERT 2x3 100MIL; MFG: SAMTEC; MFG PN: TSW-103-07-G-D; ComponentLink1Description: DigiKey; ComponentLink1URL: https://www.digikey.ca/en/products/detail/samtec-inc/TSW-103-07-G-D/1101274; ComponentLink2Description: Datasheet; ComponentLink2URL: https://suddendocs.samtec.com/catalog_english/tsw_th.pdf; Supplier: DigiKey; Supplier PN: SAM1028-03-ND
footprint H - 100MIL M TH 2x3 (TSW-103-07-G-D)
pins: 1, 2, 3, 4, 5, 6

## Header - 100MIL M TH 2x4
designator H?, comment 100MIL M TH 2x4
CONN HEADER VERT 2x4 100MIL; MFG: SAMTEC; MFG PN: TSW-104-07-G-D; ComponentLink1Description: DigiKey; ComponentLink1URL: https://www.digikey.ca/en/products/detail/samtec-inc/TSW-104-07-G-D/1101273; ComponentLink2Description: Datasheet; ComponentLink2URL: https://suddendocs.samtec.com/catalog_english/tsw_th.pdf; Supplier: DigiKey; Supplier PN: SAM1028-04-ND
footprint H - 100MIL M TH 2x4 (TSW-104-07-G-D)
pins: 1, 2, 3, 4, 5, 6, 7, 8

## Header - 100MIL M TH 2x5
designator H?, comment 100MIL M TH 2x5
CONN HEADER VERT 2x5 100MIL; MFG: SAMTEC; MFG PN: TSW-105-07-G-D; ComponentLink1Description: DigiKey; ComponentLink1URL: https://www.digikey.ca/en/products/detail/samtec-inc/TSW-105-07-G-D/1101272; ComponentLink2Description: Datasheet; ComponentLink2URL: https://suddendocs.samtec.com/catalog_english/tsw_th.pdf; Supplier: DigiKey; Supplier PN: SAM1028-05-ND
footprint H - 100MIL M TH 2x5 (TSW-105-07-G-D)
pins: 1, 2, 3, 4, 5, 6, 7, 8, 9, 10

## Header - 100MIL M TH 2x6
designator H?, comment 100MIL M TH 2x6
CONN HEADER VERT 2x6 100MIL; MFG: SAMTEC; MFG PN: TSW-106-07-G-D; ComponentLink1Description: DigiKey; ComponentLink1URL: https://www.digikey.ca/en/products/detail/samtec-inc/TSW-106-07-G-D/1101271; ComponentLink2Description: Datasheet; ComponentLink2URL: https://suddendocs.samtec.com/catalog_english/tsw_th.pdf; Supplier: DigiKey; Supplier PN: SAM1028-06-ND
footprint H - 100MIL M TH 2x6 (TSW-106-07-G-D)
pins: 1, 2, 3, 4, 5, 6, 7, 8, 9, 10, 11, 12

## Header - 100MIL M TH 2x7
designator H?, comment 100MIL M TH 2x7
CONN HEADER VERT 2x7 100MIL; MFG: SAMTEC; MFG PN: TSW-107-07-G-D; ComponentLink1Description: DigiKey; ComponentLink1URL: https://www.digikey.ca/en/products/detail/samtec-inc/TSW-107-07-G-D/1101270; ComponentLink2Description: Datasheet; ComponentLink2URL: https://suddendocs.samtec.com/catalog_english/tsw_th.pdf; Supplier: DigiKey; Supplier PN: SAM1028-07-ND
footprint H - 100MIL M TH 2x7 (TSW-107-07-G-D)
pins: 1, 2, 3, 4, 5, 6, 7, 8, 9, 10, 11, 12, 13, 14

## Header - 100MIL M TH 2x8
designator H?, comment 100MIL M TH 2x8
CONN HEADER VERT 2x8 100MIL; MFG: SAMTEC; MFG PN: TSW-108-07-G-D; ComponentLink1Description: DigiKey; ComponentLink1URL: https://www.digikey.ca/en/products/detail/samtec-inc/TSW-108-07-G-D/1101269; ComponentLink2Description: Datasheet; ComponentLink2URL: https://suddendocs.samtec.com/catalog_english/tsw_th.pdf; Supplier: DigiKey; Supplier PN: SAM1028-08-ND
footprint H - 100MIL M TH 2x8 (TSW-108-07-G-D)
pins: 1, 2, 3, 4, 5, 6, 7, 8, 9, 10, 11, 12, 13, 14, 15, 16

## Header - 100MIL M TH 2x9
designator H?, comment 100MIL M TH 2x9
CONN HEADER VERT 2x9 100MIL; MFG: SAMTEC; MFG PN: TSW-109-07-G-D; ComponentLink1Description: DigiKey; ComponentLink1URL: https://www.digikey.ca/en/products/detail/samtec-inc/TSW-109-07-G-D/1101268; ComponentLink2Description: Datasheet; ComponentLink2URL: https://suddendocs.samtec.com/catalog_english/tsw_th.pdf; Supplier: DigiKey; Supplier PN: SAM1028-09-ND
footprint H - 100MIL M TH 2x9 (TSW-109-07-G-D)
pins: 1, 2, 3, 4, 5, 6, 7, 8, 9, 10, 11, 12, 13, 14, 15, 16, 17, 18

## Header - 100MIL M TH 2x10
designator H?, comment 100MIL M TH 2x10
CONN HEADER VERT 2x10 100MIL; MFG: SAMTEC; MFG PN: TSW-110-07-G-D; ComponentLink1Description: DigiKey; ComponentLink1URL: https://www.digikey.ca/en/products/detail/samtec-inc/TSW-110-07-G-D/1101267; ComponentLink2Description: Datasheet; ComponentLink2URL: https://suddendocs.samtec.com/catalog_english/tsw_th.pdf; Supplier: DigiKey; Supplier PN: SAM1028-10-ND
footprint H - 100MIL M TH 2x10 (TSW-110-07-G-D)
pins: 1, 2, 3, 4, 5, 6, 7, 8, 9, 10, 11, 12, 13, 14, 15, 16, 17, 18, 19, 20

## Header - 100MIL M TH 2x11
designator H?, comment 100MIL M TH 2x11
CONN HEADER VERT 2x11 100MIL; MFG: SAMTEC; MFG PN: TSW-111-07-G-D; ComponentLink1Description: DigiKey; ComponentLink1URL: https://www.digikey.ca/en/products/detail/samtec-inc/TSW-111-07-G-D/1101266; ComponentLink2Description: Datasheet; ComponentLink2URL: https://suddendocs.samtec.com/catalog_english/tsw_th.pdf; Supplier: DigiKey; Supplier PN: SAM1028-11-ND
footprint H - 100MIL M TH 2x11 (TSW-111-07-G-D)
pins: 1, 2, 3, 4, 5, 6, 7, 8, 9, 10, 11, 12, 13, 14, 15, 16, 17, 18, 19, 20, 21, 22

## Header - 100MIL M TH 2x12
designator H?, comment 100MIL M TH 2x12
CONN HEADER VERT 2x12 100MIL; MFG: SAMTEC; MFG PN: TSW-112-07-G-D; ComponentLink1Description: DigiKey; ComponentLink1URL: https://www.digikey.ca/en/products/detail/samtec-inc/TSW-112-07-G-D/1101265; ComponentLink2Description: Datasheet; ComponentLink2URL: https://suddendocs.samtec.com/catalog_english/tsw_th.pdf; Supplier: DigiKey; Supplier PN: SAM1028-12-ND
footprint H - 100MIL M TH 2x12 (TSW-112-07-G-D)
pins: 1, 2, 3, 4, 5, 6, 7, 8, 9, 10, 11, 12, 13, 14, 15, 16, 17, 18, 19, 20, 21, 22, 23, 24

## Header - 100MIL M TH 2x13
designator H?, comment 100MIL M TH 2x13
CONN HEADER VERT 2x13 100MIL; MFG: SAMTEC; MFG PN: TSW-113-07-G-D; ComponentLink1Description: DigiKey; ComponentLink1URL: https://www.digikey.ca/en/products/detail/samtec-inc/TSW-113-07-G-D/1101264; ComponentLink2Description: Datasheet; ComponentLink2URL: https://suddendocs.samtec.com/catalog_english/tsw_th.pdf; Supplier: DigiKey; Supplier PN: SAM1028-13-ND
footprint H - 100MIL M TH 2x13 (TSW-113-07-G-D)
pins: 1, 2, 3, 4, 5, 6, 7, 8, 9, 10, 11, 12, 13, 14, 15, 16, 17, 18, 19, 20, 21, 22, 23, 24, 25, 26

## Header - 100MIL M TH 2x14
designator H?, comment 100MIL M TH 2x14
CONN HEADER VERT 2x14 100MIL; MFG: SAMTEC; MFG PN: TSW-114-07-G-D; ComponentLink1Description: DigiKey; ComponentLink1URL: https://www.digikey.ca/en/products/detail/samtec-inc/TSW-114-07-G-D/1101263; ComponentLink2Description: Datasheet; ComponentLink2URL: https://suddendocs.samtec.com/catalog_english/tsw_th.pdf; Supplier: DigiKey; Supplier PN: SAM1028-14-ND
footprint H - 100MIL M TH 2x14 (TSW-114-07-G-D)
pins: 1, 2, 3, 4, 5, 6, 7, 8, 9, 10, 11, 12, 13, 14, 15, 16, 17, 18, 19, 20, 21, 22, 23, 24, 25, 26, 27, 28

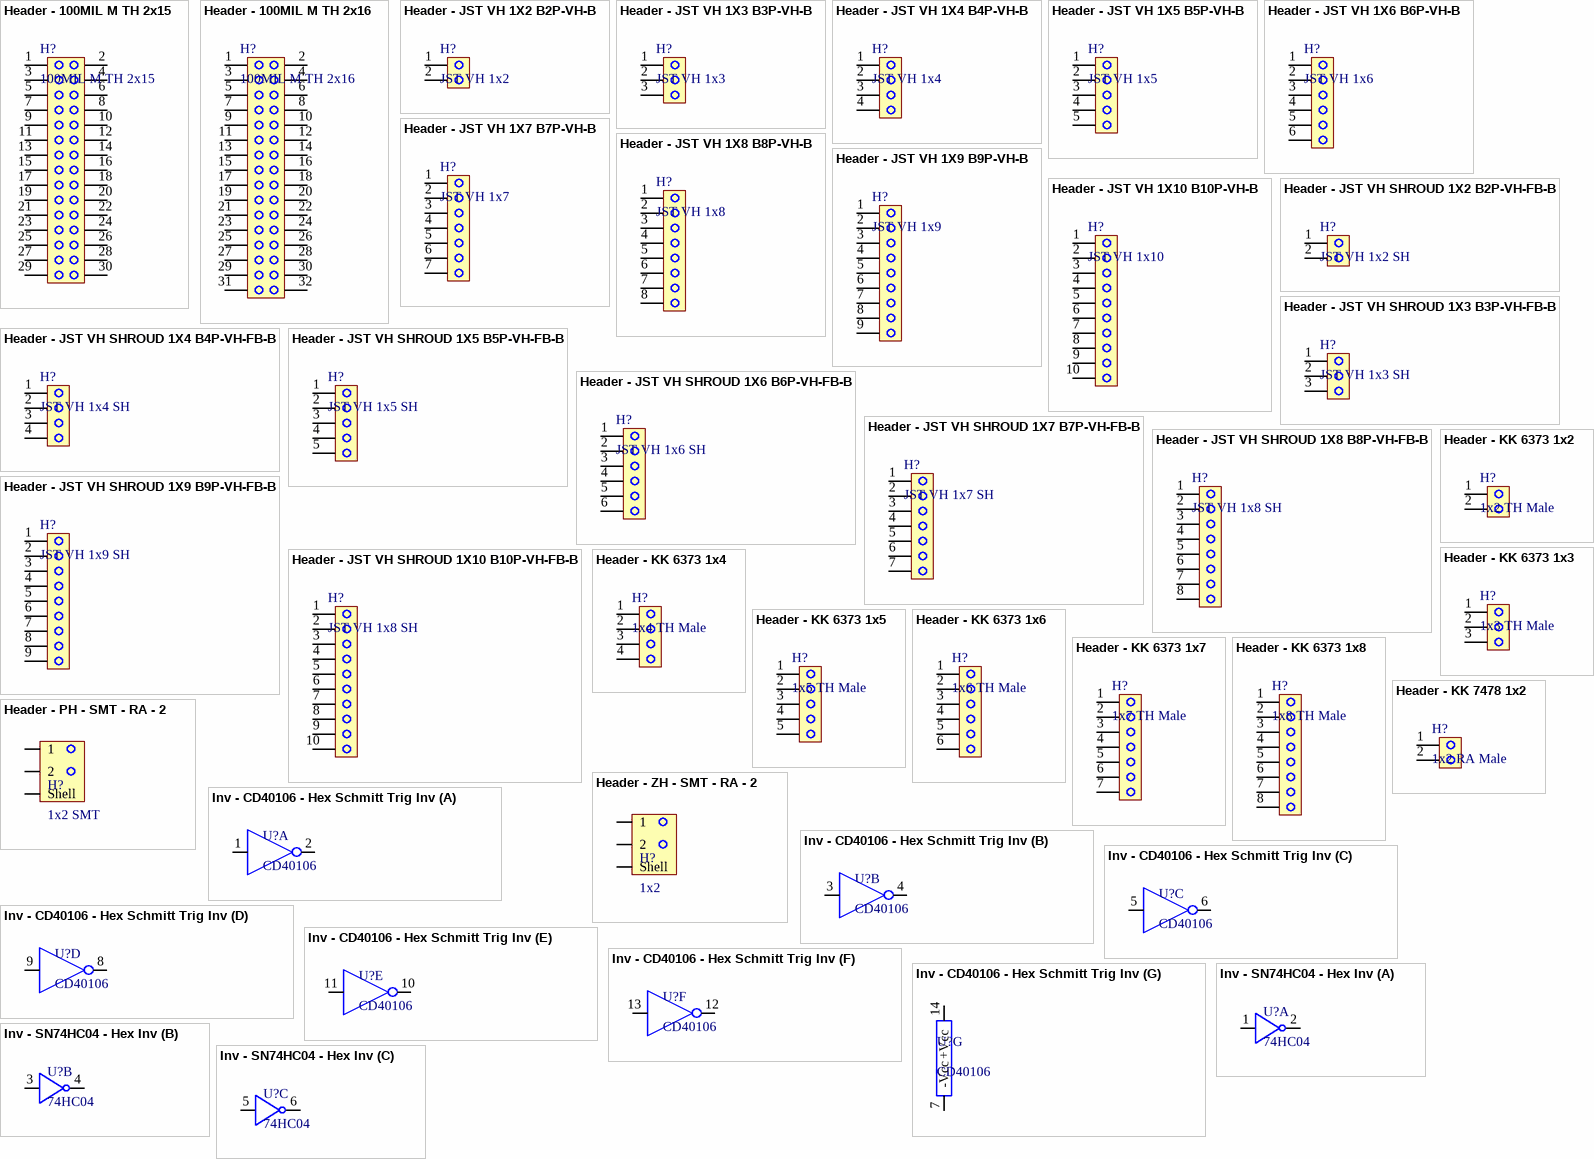
[diagram p2: symbols Header - 100MIL M TH 2x15 to Inv - SN74HC04 - Hex Inv]

## Header - 100MIL M TH 2x15
designator H?, comment 100MIL M TH 2x15
CONN HEADER VERT 2x15 100MIL; MFG: SAMTEC; MFG PN: TSW-115-07-G-D; ComponentLink1Description: DigiKey; ComponentLink1URL: https://www.digikey.ca/en/products/detail/samtec-inc/TSW-115-07-G-D/1101262; ComponentLink2Description: Datasheet; ComponentLink2URL: https://suddendocs.samtec.com/catalog_english/tsw_th.pdf; Supplier: DigiKey; Supplier PN: SAM1028-15-ND
footprint H - 100MIL M TH 2x15 (TSW-115-07-G-D)
pins: 1, 2, 3, 4, 5, 6, 7, 8, 9, 10, 11, 12, 13, 14, 15, 16, 17, 18, 19, 20, 21, 22, 23, 24, 25, 26, 27, 28, 29, 30

## Header - 100MIL M TH 2x16
designator H?, comment 100MIL M TH 2x16
CONN HEADER VERT 2x16 100MIL; MFG: SAMTEC; MFG PN: TSW-116-07-G-D; ComponentLink1Description: DigiKey; ComponentLink1URL: https://www.digikey.ca/en/products/detail/samtec-inc/TSW-116-07-G-D/1101261; ComponentLink2Description: Datasheet; ComponentLink2URL: https://suddendocs.samtec.com/catalog_english/tsw_th.pdf; Supplier: DigiKey; Supplier PN: SAM1028-16-ND
footprint H - 100MIL M TH 2x16 (TSW-116-07-G-D)
pins: 1, 2, 3, 4, 5, 6, 7, 8, 9, 10, 11, 12, 13, 14, 15, 16, 17, 18, 19, 20, 21, 22, 23, 24, 25, 26, 27, 28, 29, 30, 31, 32

## Header - JST VH 1X2 B2P-VH-B
designator H?, comment JST VH 1x2
CONN HEADER VERT 2POS 3.96MM; Manufacturer PN: B2P-VH-B; ComponentLink1Description: Digi-Key; ComponentLink1URL: https://www.digikey.ca/en/products/detail/jst-sales-america-inc/B2P-VH-B-LF-SN/1972394; ComponentLink2Description: Datasheet; ComponentLink2URL: https://www.jst.com/wp-content/uploads/2021/08/eVH-new.pdf; Distributor: DIGIKEY; Distributor PN: B2P-VH-B(LF)(SN)-ND; Manufacturer: JST
footprint H - JST VH 1X2 B2P-VH-B
pins: 1, 2

## Header - JST VH 1X3 B3P-VH-B
designator H?, comment JST VH 1x3
CONN HEADER VERT 3POS 3.96MM; Manufacturer PN: B3P-VH-B; ComponentLink1Description: Digi-Key; ComponentLink1URL: https://www.digikey.ca/en/products/detail/jst-sales-america-inc/B3P-VH-B-LF-SN/9924220; ComponentLink2Description: Datasheet; ComponentLink2URL: https://www.jst.com/wp-content/uploads/2021/08/eVH-new.pdf; Distributor: DIGIKEY; Distributor PN: B3P-VH-B(LF)(SN)-ND; Manufacturer: JST
footprint H - JST VH 1X3 B3P-VH-B
pins: 1, 2, 3

## Header - JST VH 1X4 B4P-VH-B
designator H?, comment JST VH 1x4
CONN HEADER VERT 4POS 3.96MM; Manufacturer PN: B4P-VH-B; ComponentLink1Description: Digi-Key; ComponentLink1URL: https://www.digikey.ca/en/products/detail/jst-sales-america-inc/B4P-VH-B-LF-SN/9924221; ComponentLink2Description: Datasheet; ComponentLink2URL: https://www.jst.com/wp-content/uploads/2021/08/eVH-new.pdf; Distributor: DIGIKEY; Distributor PN: B4P-VH-B(LF)(SN)-ND; Manufacturer: JST
footprint H - JST VH 1X4 B4P-VH-B
pins: 1, 2, 3, 4

## Header - JST VH 1X5 B5P-VH-B
designator H?, comment JST VH 1x5
CONN HEADER VERT 5POS 3.96MM; Manufacturer PN: B5P-VH-B; ComponentLink1Description: Digi-Key; ComponentLink1URL: https://www.digikey.ca/en/products/detail/jst-sales-america-inc/B5P-VH-B-LF-SN/9924222; ComponentLink2Description: Datasheet; ComponentLink2URL: https://www.jst.com/wp-content/uploads/2021/08/eVH-new.pdf; Distributor: DIGIKEY; Distributor PN: B5P-VH-B(LF)(SN)-ND; Manufacturer: JST
footprint H - JST VH 1X5 B5P-VH-B
pins: 1, 2, 3, 4, 5

## Header - JST VH 1X6 B6P-VH-B
designator H?, comment JST VH 1x6
CONN HEADER VERT 6POS 3.96MM; Manufacturer PN: B6P-VH-B; ComponentLink1Description: Digi-Key; ComponentLink1URL: https://www.digikey.ca/en/products/detail/jst-sales-america-inc/B6P-VH-B-LF-SN/9924223; ComponentLink2Description: Datasheet; ComponentLink2URL: https://www.jst.com/wp-content/uploads/2021/08/eVH-new.pdf; Distributor: DIGIKEY; Distributor PN: B6P-VH-B(LF)(SN)-ND; Manufacturer: JST
footprint H - JST VH 1X6 B6P-VH-B
pins: 1, 2, 3, 4, 5, 6

## Header - JST VH 1X7 B7P-VH-B
designator H?, comment JST VH 1x7
CONN HEADER VERT 7POS 3.96MM; Manufacturer PN: B7P-VH-B; ComponentLink1Description: Digi-Key; ComponentLink1URL: https://www.digikey.ca/en/products/detail/jst-sales-america-inc/B7P-VH-B-LF-SN/9924224; ComponentLink2Description: Datasheet; ComponentLink2URL: https://www.jst.com/wp-content/uploads/2021/08/eVH-new.pdf; Distributor: DIGIKEY; Distributor PN: B7P-VH-B(LF)(SN)-ND; Manufacturer: JST
footprint H - JST VH 1X7 B7P-VH-B
pins: 1, 2, 3, 4, 5, 6, 7

## Header - JST VH 1X8 B8P-VH-B
designator H?, comment JST VH 1x8
CONN HEADER VERT 8POS 3.96MM; Manufacturer PN: B8P-VH-B; ComponentLink1Description: Digi-Key; ComponentLink1URL: https://www.digikey.ca/en/products/detail/jst-sales-america-inc/B8P-VH-B-LF-SN/7423877; ComponentLink2Description: Datasheet; ComponentLink2URL: https://www.jst.com/wp-content/uploads/2021/08/eVH-new.pdf; Distributor: DIGIKEY; Distributor PN: B8P-VH-B(LF)(SN)-ND; Manufacturer: JST
footprint H - JST VH 1X8 B8P-VH-B
pins: 1, 2, 3, 4, 5, 6, 7, 8

## Header - JST VH 1X9 B9P-VH-B
designator H?, comment JST VH 1x9
CONN HEADER VERT 9POS 3.96MM; Manufacturer PN: B9P-VH-B; ComponentLink1Description: Digi-Key; ComponentLink1URL: https://www.digikey.ca/en/products/detail/jst-sales-america-inc/B9P-VH-B-LF-SN/9924225; ComponentLink2Description: Datasheet; ComponentLink2URL: https://www.jst.com/wp-content/uploads/2021/08/eVH-new.pdf; Distributor: DIGIKEY; Distributor PN: B9P-VH-B(LF)(SN)-ND; Manufacturer: JST
footprint H - JST VH 1X9 B9P-VH-B
pins: 1, 2, 3, 4, 5, 6, 7, 8, 9

## Header - JST VH 1X10 B10P-VH-B
designator H?, comment JST VH 1x10
CONN HEADER VERT 10POS 3.96MM; Manufacturer PN: B10P-VH-B; ComponentLink1Description: Digi-Key; ComponentLink1URL: https://www.digikey.ca/en/products/detail/jst-sales-america-inc/B10P-VH-B-LF-SN/9924226; ComponentLink2Description: Datasheet; ComponentLink2URL: https://www.jst.com/wp-content/uploads/2021/08/eVH-new.pdf; Distributor: DIGIKEY; Distributor PN: B10P-VH-B(LF)(SN)-ND; Manufacturer: JST
footprint H - JST VH 1X10 B10P-VH-B
pins: 1, 2, 3, 4, 5, 6, 7, 8, 9, 10

## Header - JST VH SHROUD 1X2 B2P-VH-FB-B
designator H?, comment JST VH 1x2 SH
CONN HEADER VERT 2POS 3.96MM; Manufacturer PN: B2P-VH-FB-B; ComponentLink1Description: Digi-Key; ComponentLink1URL: https://www.digikey.ca/en/products/detail/jst-sales-america-inc/B2P-VH-FB-B-LF-SN/2178726; ComponentLink2Description: Datasheet; ComponentLink2URL: https://www.jst.com/wp-content/uploads/2021/08/eVH-new.pdf; Distributor: DIGIKEY; Distributor PN: 455-2947-ND; Manufacturer: JST
footprint H - JST VH SHROUD 1x2 B2P-VH-FB-B
pins: 1, 2

## Header - JST VH SHROUD 1X3 B3P-VH-FB-B
designator H?, comment JST VH 1x3 SH
CONN HEADER VERT 3POS 3.96MM; Manufacturer PN: B3P-VH-FB-B; ComponentLink1Description: Digi-Key; ComponentLink1URL: https://www.digikey.ca/en/products/detail/jst-sales-america-inc/B3P-VH-FB-B-LF-SN/2741627; ComponentLink2Description: Datasheet; ComponentLink2URL: https://www.jst.com/wp-content/uploads/2021/08/eVH-new.pdf; Distributor: DIGIKEY; Distributor PN: 455-3978-ND; Manufacturer: JST
footprint H - JST VH SHROUD 1x3 B3P-VH-FB-B
pins: 1, 2, 3

## Header - JST VH SHROUD 1X4 B4P-VH-FB-B
designator H?, comment JST VH 1x4 SH
CONN HEADER VERT 4POS 3.96MM; Manufacturer PN: B4P-VH-FB-B; ComponentLink1Description: Digi-Key; ComponentLink1URL: https://www.digikey.ca/en/products/detail/jst-sales-america-inc/B4P-VH-FB-B-LF-SN/7230471; ComponentLink2Description: Datasheet; ComponentLink2URL: https://www.jst.com/wp-content/uploads/2021/08/eVH-new.pdf; Distributor: DIGIKEY; Distributor PN: 455-3979-ND; Manufacturer: JST
footprint H - JST VH SHROUD 1x4 B4P-VH-FB-B
pins: 1, 2, 3, 4

## Header - JST VH SHROUD 1X5 B5P-VH-FB-B
designator H?, comment JST VH 1x5 SH
CONN HEADER VERT 5POS 3.96MM; Manufacturer PN: B5P-VH-FB-B; ComponentLink1Description: Digi-Key; ComponentLink1URL: https://www.digikey.ca/en/products/detail/jst-sales-america-inc/B5P-VH-FB-B-LF-SN/9924204; ComponentLink2Description: Datasheet; ComponentLink2URL: https://www.jst.com/wp-content/uploads/2021/08/eVH-new.pdf; Distributor: DIGIKEY; Distributor PN: 455-3993-ND; Manufacturer: JST
footprint H - JST VH SHROUD 1x5 B5P-VH-FB-B
pins: 1, 2, 3, 4, 5

## Header - JST VH SHROUD 1X6 B6P-VH-FB-B
designator H?, comment JST VH 1x6 SH
CONN HEADER VERT 6POS 3.96MM; Manufacturer PN: B6P-VH-FB-B; ComponentLink1Description: Digi-Key; ComponentLink1URL: https://www.digikey.ca/en/products/detail/jst-sales-america-inc/B6P-VH-FB-B-LF-SN/1878758; ComponentLink2Description: Datasheet; ComponentLink2URL: https://www.jst.com/wp-content/uploads/2021/08/eVH-new.pdf; Distributor: DIGIKEY; Distributor PN: 455-3980-ND; Manufacturer: JST
footprint H - JST VH SHROUD 1x6 B6P-VH-FB-B
pins: 1, 2, 3, 4, 5, 6

## Header - JST VH SHROUD 1X7 B7P-VH-FB-B
designator H?, comment JST VH 1x7 SH
CONN HEADER VERT 7POS 3.96MM; Manufacturer PN: B7P-VH-FB-B; ComponentLink1Description: Digi-Key; ComponentLink1URL: https://www.digikey.ca/en/products/detail/jst-sales-america-inc/B7P-VH-FB-B-LF-SN/9924205; ComponentLink2Description: Datasheet; ComponentLink2URL: https://www.jst.com/wp-content/uploads/2021/08/eVH-new.pdf; Distributor: DIGIKEY; Distributor PN: 455-3994-ND; Manufacturer: JST
footprint H - JST VH SHROUD 1x7 B7P-VH-FB-B
pins: 1, 2, 3, 4, 5, 6, 7

## Header - JST VH SHROUD 1X8 B8P-VH-FB-B
designator H?, comment JST VH 1x8 SH
CONN HEADER VERT 8POS 3.96MM; Manufacturer PN: B8P-VH-FB-B; ComponentLink1Description: Digi-Key; ComponentLink1URL: https://www.digikey.ca/en/products/detail/jst-sales-america-inc/B8P-VH-FB-B-LF-SN/4771490; ComponentLink2Description: Datasheet; ComponentLink2URL: https://www.jst.com/wp-content/uploads/2021/08/eVH-new.pdf; Distributor: DIGIKEY; Distributor PN: 455-3981-ND; Manufacturer: JST
footprint H - JST VH SHROUD 1x8 B8P-VH-FB-B
pins: 1, 2, 3, 4, 5, 6, 7, 8

## Header - JST VH SHROUD 1X9 B9P-VH-FB-B
designator H?, comment JST VH 1x9 SH
CONN HEADER VERT 9POS 3.96MM; Manufacturer PN: B9P-VH-FB-B; ComponentLink1Description: Digi-Key; ComponentLink1URL: https://www.digikey.ca/en/products/detail/jst-sales-america-inc/B9P-VH-FB-B-LF-SN/9924206; ComponentLink2Description: Datasheet; ComponentLink2URL: https://www.jst.com/wp-content/uploads/2021/08/eVH-new.pdf; Distributor: DIGIKEY; Distributor PN: 455-3995-ND; Manufacturer: JST
footprint H - JST VH SHROUD 1x9 B9P-VH-FB-B
pins: 1, 2, 3, 4, 5, 6, 7, 8, 9

## Header - JST VH SHROUD 1X10 B10P-VH-FB-B
designator H?, comment JST VH 1x8 SH
CONN HEADER VERT 10POS 3.96MM; Manufacturer PN: B10P-VH-FB-B; ComponentLink1Description: Digi-Key; ComponentLink1URL: https://www.digikey.ca/en/products/detail/jst-sales-america-inc/B10P-VH-FB-B-LF-SN/9924207; ComponentLink2Description: Datasheet; ComponentLink2URL: https://www.jst.com/wp-content/uploads/2021/08/eVH-new.pdf; Distributor: DIGIKEY; Distributor PN: 455-3996-ND; Manufacturer: JST
footprint H - JST VH SHROUD 1x10 B10P-VH-FB-B
pins: 1, 2, 3, 4, 5, 6, 7, 8, 9, 10

## Header - KK 6373 1x2
designator H?, comment 1x2 TH Male
CONN HEADER 2POS .100 VERT TIN; MFG: Molex; MFG PN: 22-23-2021; Supplier: DigiKey; Supplier PN: WM4200-ND
footprint H - KK 100 - TH - 1x2 (WM4200-ND)
pins: 1, 2

## Header - KK 6373 1x3
designator H?, comment 1x3 TH Male
CONN HEADER 3POS .100 VERT TIN; MFG: Molex; MFG PN: 0022232031; Supplier: DigiKey; Supplier PN: WM4201-ND
footprint H - KK 100 - TH - 1x3 (WM4201-ND)
pins: 1, 2, 3

## Header - KK 6373 1x4
designator H?, comment 1x4 TH Male
CONN HEADER 4POS .100 VERT TIN; MFG: Molex; MFG PN: 0022232041; Supplier: DigiKey; Supplier PN: WM4202-ND
pins: 1, 2, 3, 4

## Header - KK 6373 1x5
designator H?, comment 1x5 TH Male
CONN HEADER 5POS .100 VERT TIN; MFG: Molex; MFG PN: 0022232051; Supplier: DigiKey; Supplier PN: WM4203-ND
footprint H - KK 100 - TH - 1x5 (WM4203-ND)
pins: 1, 2, 3, 4, 5

## Header - KK 6373 1x6
designator H?, comment 1x6 TH Male
CONN HEADER 6POS .100 VERT TIN; MFG: Molex; MFG PN: 0022232061; Supplier: DigiKey; Supplier PN: WM4204-ND
pins: 1, 2, 3, 4, 5, 6

## Header - KK 6373 1x7
designator H?, comment 1x7 TH Male
CONN HEADER 7POS .100 VERT TIN; MFG: Molex; MFG PN: 0022232071; Supplier: DigiKey; Supplier PN: WM4205-ND
pins: 1, 2, 3, 4, 5, 6, 7

## Header - KK 6373 1x8
designator H?, comment 1x8 TH Male
CONN HEADER 8POS .100 VERT TIN; MFG: Molex; MFG PN: 0022232081; Supplier: DigiKey; Supplier PN: WM4206-ND
pins: 1, 2, 3, 4, 5, 6, 7, 8

## Header - KK 7478 1x2
designator H?, comment 1x2 RA Male
CONN HEADER R/A 2POS 2.54MM; MFG: Molex; MFG PN: 0022053021; Supplier: DigiKey; Supplier PN: 900-0022053021-ND
footprint H - KK 7478 - 1x2 - RA - SMT (900-0022053021-ND, used as SMT)
pins: 1, 2

## Header - PH - SMT - RA - 2
designator H?, comment 1x2 SMT
CONN HEADER SMD R/A 2POS 2MM; MFG: JST; MFG PN: S2B-PH-SM4-TB(LF)(SN); ComponentLink1URL: *; ComponentLink2URL: *; Supplier: DigiKey; Supplier PN: 455-1749-1-ND
footprint H - PH - SMT - RA - 2 (455-1749-1-ND, S2B-PH-SM4-TB(LF)(SN))
pins: 0 Shell, 1, 2

## Header - ZH - SMT - RA - 2
designator H?, comment 1x2
CONN HEADER SMD R/A 2POS 1.5MM; MFG: JST; MFG PN: S2B-ZR-SM4A-TF(LF)(SN); ComponentLink1URL: *; ComponentLink2URL: *; Supplier: DigiKey; Supplier PN: 455-1693-1-ND
footprint H - ZH - SMT - RA - 2 (455-1693-1-ND, S2B-ZR-SM4A-TF(LF)(SN))
pins: 0 Shell, 1, 2

## Inv - CD40106 - Hex Schmitt Trig Inv
designator U?, comment CD40106
IC INVERTER GATE HEX 14SOIC; MFG: TI; MFG PN: CD40106BM96; Supplier: DigiKey; Supplier PN: 296-14081-1-ND; ComponentLink1Description: DigiKey; ComponentLink1URL: https://www.digikey.ca/en/products/detail/texas-instruments/CD40106BM96/525858; ComponentLink2Description: Datasheet; ComponentLink2URL: https://www.ti.com/lit/ds/symlink/cd40106b.pdf
footprint TI - D (R-PDSO-G14)
part A pins: 1, 2
part B pins: 3, 4
part C pins: 5, 6
part D pins: 8, 9
part E pins: 10, 11
part F pins: 12, 13
part G pins: 7 -Vcc, 14 +Vcc

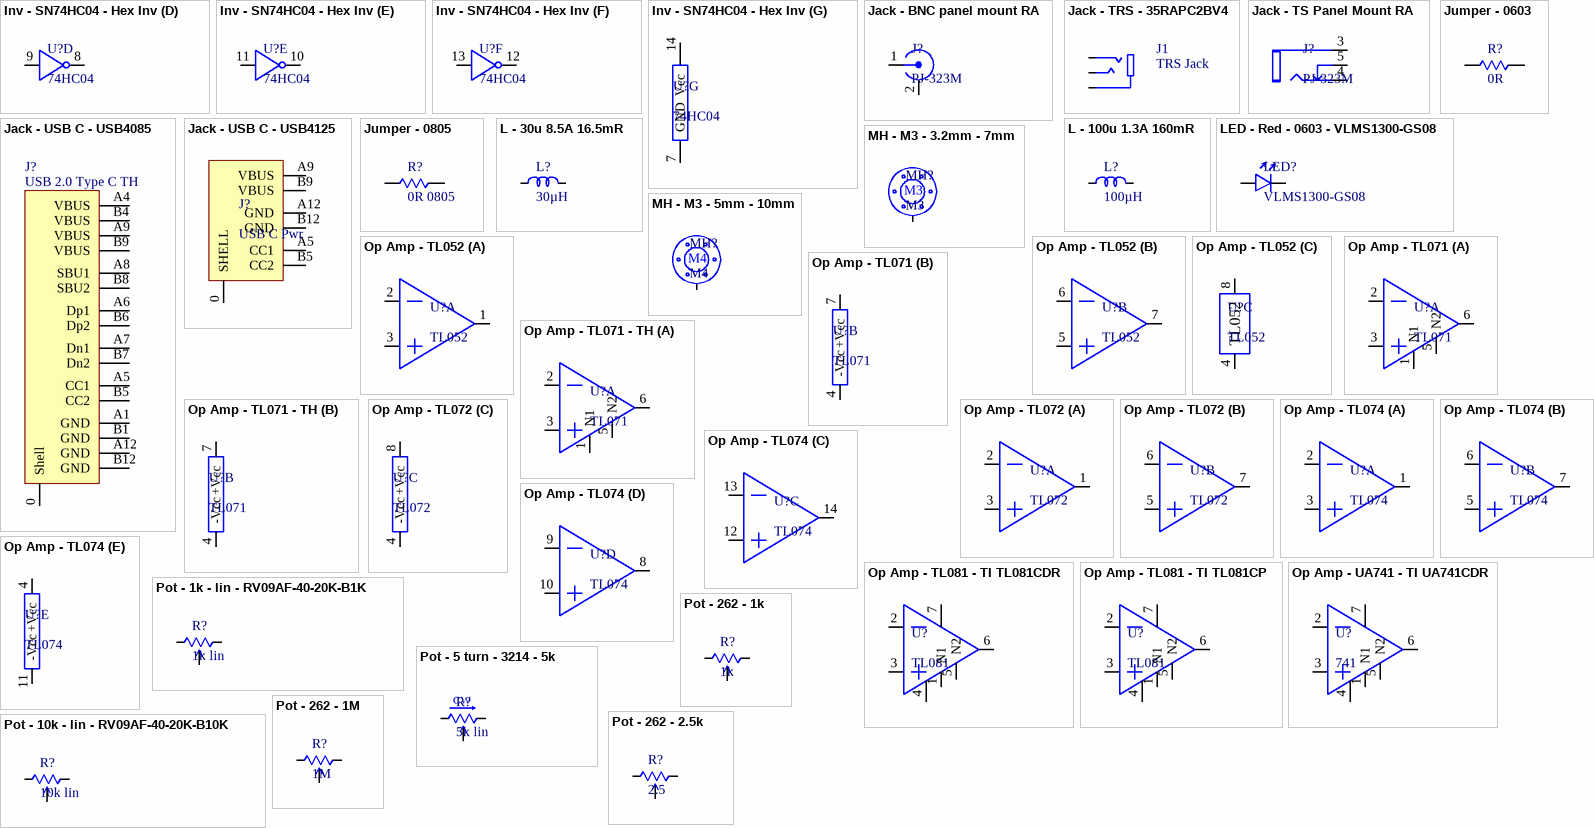
[diagram p3: symbols Inv - SN74HC04 - Hex Inv to Pot - 262 - 2.5k]

## Inv - SN74HC04 - Hex Inv
designator U?, comment 74HC04
IC HEX INVERTER 14-TSSOP; MFG: TI; MFG PN: SN74HC04PWR; Supplier: DigiKey; Supplier PN: 296-8208-1-ND; ComponentLink1Description: DigiKey; ComponentLink1URL: https://www.digikey.ca/en/products/detail/texas-instruments/SN74HC04PWR/377033; ComponentLink2Description: Datasheet; ComponentLink2URL: https://www.ti.com/lit/ds/symlink/sn74hc04.pdf
footprint TSSOP 14 (Taken from CD4016B datasheet by TI)
part A pins: 1, 2
part B pins: 3, 4
part C pins: 5, 6
part D pins: 8, 9
part E pins: 10, 11
part F pins: 12, 13
part G pins: 7 GND, 14 Vcc

## Jack - BNC panel mount RA
designator J?, comment PJ-323M
AUX TS PM RA; MFG: TE Connectivity AMP Connectors; MFG PN: 1-1337543-0; Supplier: DigiKey; ComponentLink1URL: https://www.digikey.ca/en/products/detail/te-connectivity-amp-connectors/1-1337543-0/1755940; ComponentLink2URL: *; Supplier PN: A97553-ND; ComponentLink1Description: DigiKey
footprint J - BNC RA PM - 1-1337543-0 (A97553-ND)
pins: 1, 2

## Jack - TRS - 35RAPC2BV4
designator J1, comment TRS Jack
CONN JACK STEREO 3.5MM R/A; MFG: Switchcraft; MFG PN: 35RAPC2BV4; ComponentLink2Description: Datasheet; ComponentLink2URL: https://www.switchcraft.com/Drawings/35rapc__v4_cd.pdf; Supplier: DigiKey; Supplier PN: SC1460-ND; ComponentLink1Description: DigiKey; ComponentLink1URL: https://www.digikey.ca/en/products/detail/switchcraft-inc/35RAPC2BV4/389168
footprint Jack - TRS - MJ-3502 (from CP-3502MJ-ND)
pins: 1, 2, 4

## Jack - TS Panel Mount RA
designator J?, comment PJ-323M
AUX TS PM RA; MFG: Tayda Electronics; MFG PN: PJ-323M; Supplier: Tayda; Supplier PN: A-2557; ComponentLink1Description: Tayda; ComponentLink1URL: https://www.taydaelectronics.com/pj-323m-3-5-mm-mono-phone-jack.html
footprint J - TS RA PM - PJ-323M (A-2557)
pins: 3, 4, 5

## Jack - USB C - USB4085
designator J?, comment USB 2.0 Type C TH
CONN RCPT USB2.0 TYPEC 16POS; MFG: GCT; MFG PN: USB4085-GF-A; ComponentLink2Description: Datasheet; ComponentLink2URL: https://gct.co/files/drawings/usb4085.pdf; Supplier: DigiKey; Supplier PN: 2073-USB4085-GF-ACT-ND; ComponentLink1Description: DigiKey; ComponentLink1URL: https://www.digikey.ca/en/products/detail/gct/USB4085-GF-A/9859662
footprint Jack - USB C - 2.0 - TH (from 2073-USB4085-GF-ACT-ND)
pins: 0 Shell, A1 GND, A4 VBUS, A5 CC1, A6 Dp1, A7 Dn1, A8 SBU1, A9 VBUS, A12 GND, B1 GND, B4 VBUS, B5 CC2, B6 Dp2, B7 Dn2, B8 SBU2, B9 VBUS, B12 GND

## Jack - USB C - USB4125
designator J?, comment USB C Pwr
CONN RCPT TYPE C 6P SMD RA; MFG: GCT; MFG PN: USB4125-GF-A; ComponentLink1Description: DigiKey; ComponentLink1URL: https://www.digikey.ca/en/products/detail/gct/USB4125-GF-A/13547388; Supplier: DigiKey; Supplier PN: 2073-USB4125-GF-ACT-ND
pins: 0 SHELL, A5 CC1, A9 VBUS, A12 GND, B5 CC2, B9 VBUS, B12 GND

## Jumper - 0603
designator R?, comment 0R
RES SMD 0 OHM JUMPER 1/10W 0603; MFG: Yageo; MFG PN: 311-0.0GRCT-ND; Supplier: DigiKey; Supplier PN: 311-0.0GRCT-ND; ComponentLink1Description: DigiKey; ComponentLink1URL: https://www.digikey.ca/en/products/detail/yageo/RC0603JR-070RL/726675
footprint R0603
pins: 1, 2

## Jumper - 0805
designator R?, comment 0R 0805
RES SMD 0.0 OHM JUMPER 1/8W 0805; MFG: Yageo; MFG PN: RC0805JR-070RL; Supplier: DigiKey; Supplier PN: 311-0.0ARCT-ND; ComponentLink1Description: DigiKey; ComponentLink1URL: https://www.digikey.ca/en/products/detail/yageo/RC0805JR-070RL/728216
footprint R0805
pins: 1, 2

## L - 30u 8.5A 16.5mR
designator L?, comment 30µH
FIXED IND 30UH 8.5A 16.5 MOHM; MFG: EPCOS (TDK); MFG PN: B82559A0303A016; Supplier: DigiKey; Supplier PN: 495-75392-1-ND; ComponentLink1Description: DigiKey; ComponentLink1URL: https://www.digikey.ca/en/products/detail/epcos-tdk-electronics/B82559A0303A016/6243477
pins: 1, 2

## L - 100u 1.3A 160mR
designator L?, comment 100µH
FIXED IND 100UH 1.3A 160 MOHM; MFG: Sumida America Components Inc.; MFG PN: CDRH125NP-101MC; Supplier: DigiKey; Supplier PN: 308-1437-1-ND; ComponentLink1Description: DigiKey; ComponentLink1URL: https://www.digikey.ca/en/products/detail/sumida-america-inc/CDRH125NP-101MC/700532
footprint L - CDRH125NP-101MC (308-1437-1-ND)
pins: 1, 2

## LED - Red - 0603 - VLMS1300-GS08
designator LED?, comment VLMS1300-GS08
LED RED 0603 SMD; MFG: Vishay Semiconductor Opto Division; MFG PN: VLMS1300-GS08; Supplier: DigiKey; Supplier PN: VLMS1300-GS08CT-ND; ComponentLink1Description: DigiKey; ComponentLink1URL: https://www.digikey.ca/en/products/detail/vishay-semiconductor-opto-division/VLMS1300-GS08/2813354
footprint LED - VLMS1300-GS08
pins: 1, 2

## MH - M3 - 3.2mm - 7mm
designator MH?, comment M3  (no BOM)
Mounting hole for M3 Screw
footprint MH - M3 - 3.2mm - 7mm (Mounting hole. 3.2mm hole, 7mm keepout.)
pins: 0

## MH - M3 - 5mm - 10mm
designator MH?, comment M4  (no BOM)
Mounting hole for M4 Screw
footprint MH - M4 - 5mm - 10mm (Mounting Hole, 5mm hole, 10mm keepout.)
pins: 0

## Op Amp - TL052
designator U?, comment TL052
IC OPAMP JFET 3MHZ 8SOIC; MFG: TI; MFG PN: TL052CDR; Supplier: DigiKey; Supplier PN: 296-24365-1-ND; ComponentLink1Description: DigiKey; ComponentLink1URL: https://www.digikey.ca/en/products/detail/texas-instruments/TL052CDR/1674356; ComponentLink2Description: Datasheet; ComponentLink2URL: https://www.ti.com/lit/ds/symlink/tl052.pdf
footprint TI - D (R-PDSO-G8) (http://www.ti.com/lit/ml/mpds348/mpds348.pdf)
part A pins: 1, 2, 3
part B pins: 5, 6, 7
part C pins: 4, 8

## Op Amp - TL071
designator U?, comment TL071
IC OPAMP JFET 3MHZ 8SOIC; MFG: TI; MFG PN: TL071CDR; Supplier: DigiKey; Supplier PN: 296-14994-1-ND; ComponentLink2Description: Datasheet; ComponentLink2URL: http://www.ti.com/lit/ds/symlink/tl071a.pdf; ComponentLink1Description: DigiKey; ComponentLink1URL: https://www.digikey.ca/en/products/detail/texas-instruments/TL071CDR/562850
part A pins: 1 N1, 2, 3, 5 N2, 6
part B pins: 4 -Vcc, 7 +Vcc